# Altium footprint library SHDRV3W50P150_3X1_600X350H450N.PcbLib: 1 footprints
Each footprint in its own frame and in the unit in brackets; x right, y up, seen from the top. Pads: shape width x height; smd on the part's side, far side on the other; paste and mask are expansions set on the pad; w line width, h text height; cw(c..) or ccw(c..) is an arc to the next point about the centre after c.
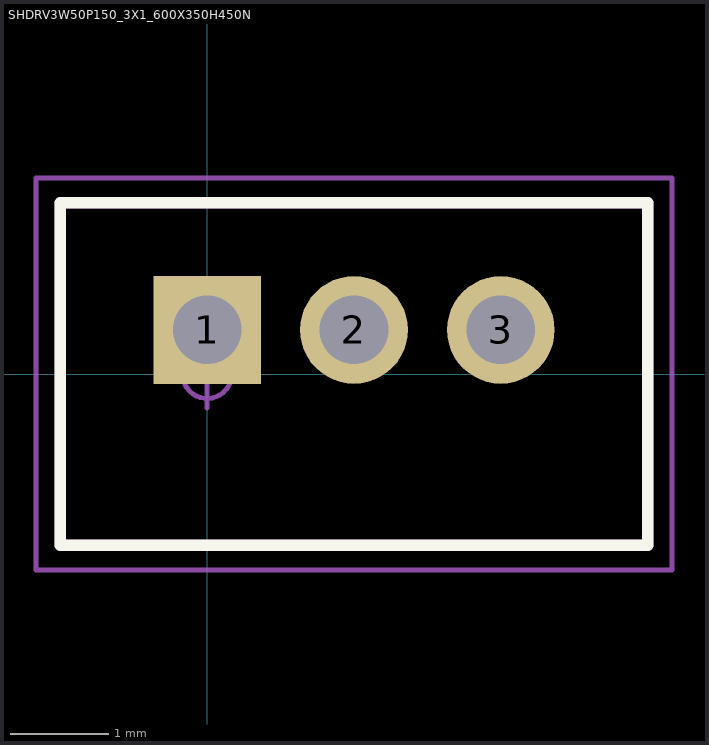
[diagram p0: the footprint, top view; thin cyan lines are the x and y axes]

## SHDRV3W50P150_3X1_600X350H450N [mm] "Header, Vertical Shroulded, 1.50 mm pitch; 0.50 mm lead width, 3 pins, 1 row, 3 pins per row, 6.00 mm L X 3.50 mm W X 4.50 mm H Body"
height 4.5
pads (3):
  rect 1.1x1.1 / inner round 1.1 / far side rect 1.1x1.1 hole 0.7 paste-1.1: 1(0,0.45)
  round 1.1 hole 0.7 paste-1.1: 2(1.5,0.45) 3(3,0.45)
Top Overlay:
  lines w0.12: -1.5,-1.75 4.5,-1.75 4.5,1.75 -1.5,1.75 -1.5,-1.75
Mechanical 3:
  lines w0.12: -1.5,-1.75 4.5,-1.75 4.5,1.75 -1.5,1.75 -1.5,-1.75
Mechanical 5:
  circle w0.025: c3,0.45 r0.25
  circle w0.025: c1.5,0.45 r0.25
  circle w0.025: c0,0.45 r0.25
  lines w0.025: -1.5,-1.75 4.5,-1.75 4.5,1.75 -1.5,1.75 -1.5,-1.75
Mechanical 7:
  circle w0.05: c0,0 r0.25
  lines w0.05: -0.35,0 0.35,0 ; 0,-0.35 0,0.35 ; -1.75,-2 4.75,-2 4.75,2 -1.75,2 -1.75,-2
Mechanical 9:
  text "'.Designator'" at -2.413,3.048 h1.52
3D body: height 3.65, standoff -3.65, extent -1.787,-2 4.75,2
3D body "SHDRV3W50P150_3X1_600X350H450.STEP": height 4.5, standoff -2, extent -1.5,-1.75 4.5,1.75